# Altium schematic symbol library IC_Texas_Instruments_SN74AHCT125N_eec.SchLib: 1 symbol
Pins are listed as number, name and electrical type; pins without a type are passive.

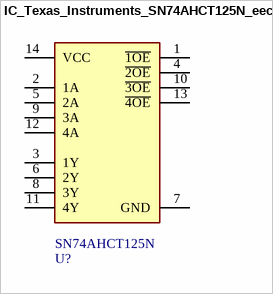
[diagram p0: symbol IC_Texas_Instruments_SN74AHCT125N_eec]

## IC_Texas_Instruments_SN74AHCT125N_eec
designator U?  Part Number: SN74AHCT125N
IC BUS BUFFER TRI-ST QD 14DIP; Manufacturer: Texas Instruments; helpURL: https://upverter.com/upn/revision/1c4f862725617c4f/; ComponentLink2Description: Datasheet; Temperature: -40°C to +125°C; Package: PDIP-14; Supplier 2: Mouser; Price: 0.244397165503; Supplier 1: Digi-Key; ComponentLink1URL: https://upverter.com/upn/revision/1c4f862725617c4f/; Supplier Part Number 2: 595-SN74AHCT125N; Supplier Part Number 1: 296-4655-5-ND; ComponentLink1Description: Upverter; ComponentLink2URL: http://www.ti.com/lit/ds/symlink/sn74ahct125.pdf; RoHS: TRUE; Mouser Part Number: 595-SN74AHCT125N; Ipc Land Pattern Name: DIP794W46P254L1930H508Q14; Temperature Range High: +125°C; Digikey Description: IC BUS BUFFER TRI-ST QD 14DIP; Digikey Part Number: 296-4655-5-ND; Lead Free: yes; Temperature Range Low: -40°C
footprint Texas_Instruments_SN74AHCT125N_0
pins: 1 ~{1OE}, 2 1A, 3 1Y, 4 ~{2OE}, 5 2A, 6 2Y, 7 GND, 8 3Y, 9 3A, 10 ~{3OE}, 11 4Y, 12 4A, 13 ~{4OE}, 14 VCC